# EAGLE library part 154N_NAU7802_TH_QTPY (library Ablatometer Keller 7LD)
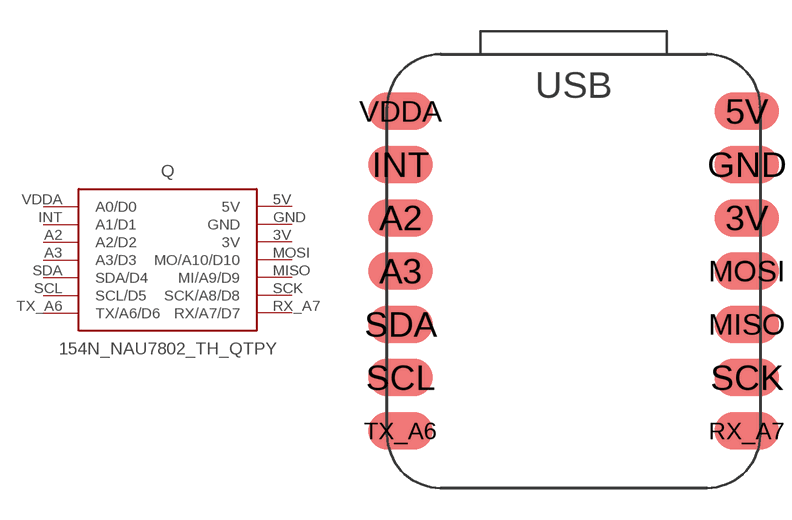
[diagram p0: symbol with the pads of 154N_NAU7802_TH_QTPY; footprint 154N_NAU7802_TH_QTPY]

Designator prefix Q

## 154N_NAU7802_TH_QTPY  [154N_NAU7802_TH_QTPY]
3V  3V
5V  5V
A2  A2/D2
A3  A3/D3
GND  GND
INT  A1/D1
MISO  MI/A9/D9
MOSI  MO/A10/D10
RX_A7  RX/A7/D7
SCK  SCK/A8/D8
SCL  SCL/D5
SDA  SDA/D4
TX_A6  TX/A6/D6
VDDA  A0/D0

## Footprint 154N_NAU7802_TH_QTPY (pad centres in mm)
smd 3.048 x 1.778: 3V 8.255,2.54; 5V 8.255,7.62; A2 -8.255,2.54; A3 -8.255,0; GND 8.255,5.08; INT -8.255,5.08; MISO 8.255,-2.54; MOSI 8.255,0; RX_A7 8.255,-7.62; SCK 8.255,-5.08; SCL -8.255,-5.08; SDA -8.255,-2.54; TX_A6 -8.255,-7.62; VDDA -8.255,7.62